# Altium footprint library AltiumLibraries.PcbLib: 84 footprints (part 4 of 6)
Each footprint in its own frame and in the unit in brackets; x right, y up, seen from the top. Pads: shape width x height; smd on the part's side, far side on the other; paste and mask are expansions set on the pad; w line width, h text height; cw(c..) or ccw(c..) is an arc to the next point about the centre after c.
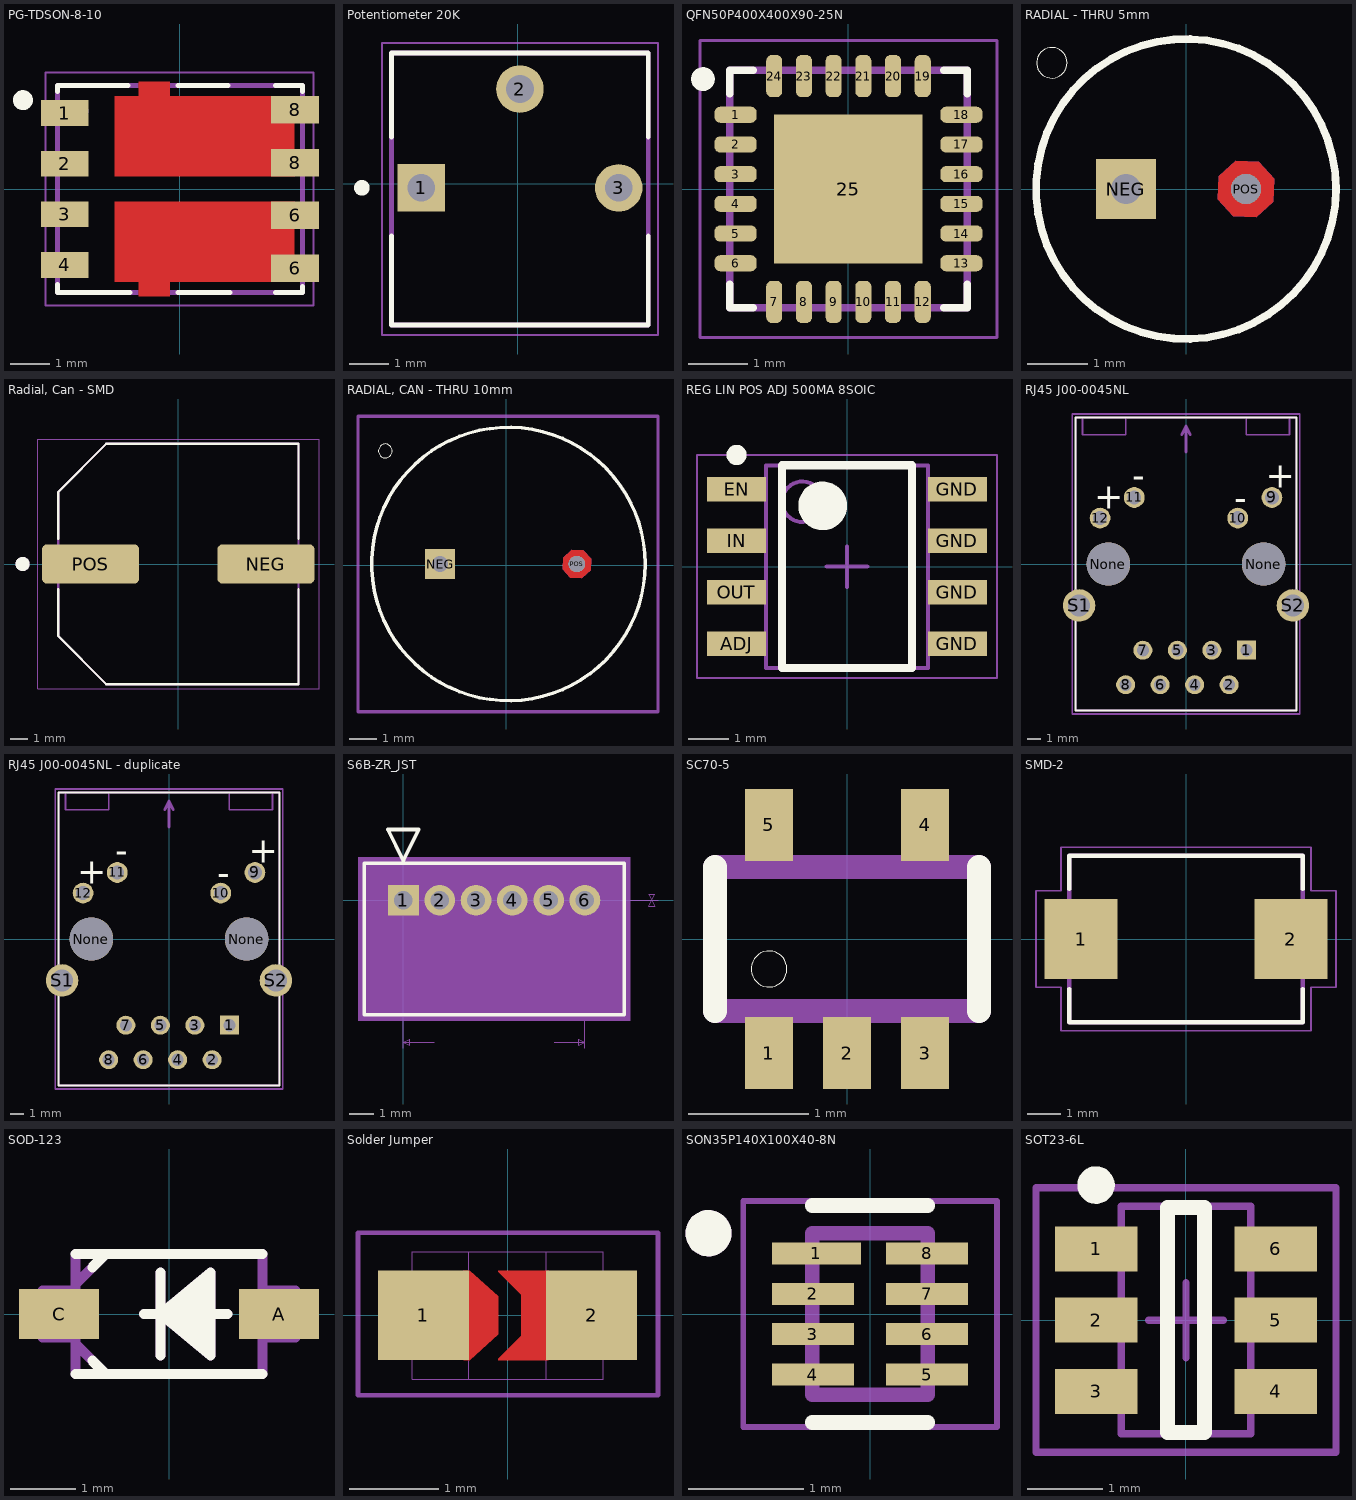
[diagram p3: the footprints below, top view; thin cyan lines are the x and y axes]

## PG-TDSON-8-10 [mm] "Infineon specific mosfet array footprint"
pads (8):
  rect 1.2x0.65 smd: 1(-2.89,1.905) 2(-2.89,0.635) 3(-2.89,-0.635) 4(-2.89,-1.905)
  rect 1.2x0.7 smd: 6(2.89,-1.99) 6(2.89,-0.66) 8(2.89,0.66) 8(2.89,1.99)
Top Layer:
  rectangle: -1.04,2.1 -0.25,2.7
  rectangle: -1.04,-2.7 -0.25,-2.1
  region: -1.64,-0.32 2.84,-0.32 2.87,-0.32 2.87,-2.33 -1.62,-2.33 -1.64,-2.33 -1.64,-2.31
  region: -1.64,2.33 2.84,2.33 2.87,2.33 2.87,0.32 -1.62,0.32 -1.64,0.32 -1.64,0.34
Top Overlay:
  circle w0.3: c-3.94,2.23 r0.1
  lines w0.127: -3.075,-2.4 -3.075,-2.6 -1.25,-2.6 ; -3.075,2.45 -3.075,2.6 -1.3,2.6 ; -0.05,-2.6 1.25,-2.6 ; -0.05,2.6 1.2,2.6 ; 2.4,-2.6 3.075,-2.6 3.075,-2.45 ; 2.4,2.6 3.075,2.6 3.075,2.45
Top Paste:
  rectangle: -1.12,0.97 -0.32,1.79
  rectangle: -1,0.91 -0.2,1.73
  rectangle: -1.06,-1.72 -0.26,-0.9
  rectangle: 0.59,0.87 1.39,1.69
  rectangle: 0.83,-1.73 1.63,-0.91
Top Solder:
  region: -1.101,-2.25 -0.2,-2.25 -0.2,-2.752 -1.101,-2.752
  region: -1.101,2.75 -0.2,2.75 -0.2,2.253 -1.101,2.253
Mechanical 4:
  circle w0.3: c-2.55,1.95 r0.1
  circle w0.3: c-2.55,1.95 r0.1
  lines w0.127: -3.075,-2.6 -3.075,2.6 ; -3.075,-2.6 3.075,-2.6 ; -3.075,-2.6 -3.075,2.6 ; -3.075,-2.6 3.075,-2.6 ; -3.075,2.6 3.075,2.6 ; -3.075,2.6 3.075,2.6 ; 3.075,-2.6 3.075,2.6 ; 3.075,-2.6 3.075,2.6
Mechanical 16:
  lines w0.05: -3.375,-2.925 -3.375,2.925 3.35,2.925 3.35,-2.925 -3.375,-2.925

## Potentiometer 20K [mm]
pads (3):
  rect 1.222x1.222 hole 0.714: 1(-2.48,-0.1)
  round 1.222 hole 0.714: 2(0.06,2.44) 3(2.6,-0.1)
Top Overlay:
  circle w0.2: c-4.004,-0.1 r0.1
  lines w0.127: -3.24,-3.63 3.36,-3.63 ; -3.24,-3.62 -3.24,-1.335 ; -3.24,1.205 -3.24,3.37 3.36,3.37 3.36,1.205 ; 3.36,-3.62 3.36,-1.335
Mechanical 4:
  lines w0.127: -3.24,-3.63 3.36,-3.63 ; -3.24,-3.63 -3.24,3.37 ; -3.24,-3.63 3.36,-3.63 ; -3.24,-3.63 -3.24,3.37 ; -3.24,3.37 3.36,3.37 ; -3.24,3.37 3.36,3.37 ; 3.36,-3.63 3.36,3.37 ; 3.36,-3.63 3.36,3.37
Mechanical 16:
  lines w0.05: -3.49,-3.88 3.61,-3.88 3.61,3.62 -3.49,3.62 -3.49,-3.88

## QFN50P400X400X90-25N [mm]
pads (25):
  rrect70% 0.71x0.27 smd: 1(-1.9,1.25) 2(-1.9,0.75) 3(-1.9,0.25) 4(-1.9,-0.25) 5(-1.9,-0.75) 6(-1.9,-1.25) 13(1.9,-1.25) 14(1.9,-0.75) 15(1.9,-0.25) 16(1.9,0.25) 17(1.9,0.75) 18(1.9,1.25)
  rrect70% 0.27x0.71 smd: 7(-1.25,-1.9) 8(-0.75,-1.9) 9(-0.25,-1.9) 10(0.25,-1.9) 11(0.75,-1.9) 12(1.25,-1.9) 19(1.25,1.9) 20(0.75,1.9) 21(0.25,1.9) 22(-0.25,1.9) 23(-0.75,1.9) 24(-1.25,1.9)
  rect 2.5x2.5 smd paste-2: 25(0,0)
Top Overlay:
  circle w0.2: c-2.45,1.85 r0.1
  lines w0.127: -2,-1.6 -2,-2 -1.6,-2 ; -2,1.6 -2,2 -1.6,2 ; 1.6,-2 2,-2 2,-1.6 ; 1.6,2 2,2 2,1.6
Top Paste:
  region: -0.1,0.1 -1.101,0.1 -1.101,1.1 -0.1,1.1
  region: 1.1,0.1 0.1,0.1 0.1,1.1 1.1,1.1
  region: 1.1,-1.101 0.1,-1.101 0.1,-0.1 1.1,-0.1
  region: -0.1,-1.101 -1.101,-1.101 -1.101,-0.1 -0.1,-0.1
Mechanical 13:
  lines w0.127: -2,-2 -2,2 2,2 2,-2 -2,-2
Mechanical 15:
  lines w0.05: -2.5,-2.5 -2.5,2.5 2.5,2.5 2.5,-2.5 -2.5,-2.5

## RADIAL - THRU 5mm [mm] "Through Hole"
pads (2):
  rect 1.008x1.008 hole 0.5: NEG(-1,0)
  round 0.5 hole 0.5: POS(1,0)
Top Layer:
  region: 1.474,0.172 1.213,0.457 0.828,0.474 0.543,0.213 0.526,-0.172 0.787,-0.457 1.172,-0.474 1.457,-0.213
Bottom Layer:
  region: 1.474,0.172 1.213,0.457 0.828,0.474 0.543,0.213 0.526,-0.172 0.787,-0.457 1.172,-0.474 1.457,-0.213
Top Overlay:
  circle w0.127: c0,0 r2.5
  circle w0: c-2.236,2.103 r0.254
Multi-Layer:
  region: 1.474,0.172 1.213,0.457 0.828,0.474 0.543,0.213 0.526,-0.172 0.787,-0.457 1.172,-0.474 1.457,-0.213

## Radial, Can - SMD [mm]
pads (2):
  rrect25% 5.46x2.21 smd: NEG(4.925,0) POS(-4.925,0)
Top Overlay:
  circle w0.4: c-8.75,0 r0.2
  lines w0.127: -6.75,-1.42 -6.75,-4.05 -4.05,-6.752 6.75,-6.752 6.75,-1.42 ; -6.75,1.42 -6.75,4.05 -4.05,6.752 6.75,6.752 6.75,1.42
Mechanical 13:
  circle w0.4: c-8.75,0 r0.2
  lines w0.127: -6.75,-4.05 -6.75,4.05 -4.05,6.75 6.75,6.75 6.75,-6.75 -4.05,-6.75 -6.75,-4.05
Mechanical 15:
  lines w0.05: -7.905,-7 7.905,-7 7.905,7 -7.905,7 -7.905,-7

## RADIAL, CAN - THRU 10mm [mm]
pads (2):
  rect 1.108x1.108 hole 0.6: NEG(-2.424,0.051)
  round 0.6 hole 0.6: POS(2.576,0.051)
Top Layer:
  region: 3.097,0.24 2.81,0.553 2.387,0.571 2.074,0.285 2.056,-0.139 2.342,-0.451 2.766,-0.47 3.078,-0.183
Bottom Layer:
  region: 3.097,0.24 2.81,0.553 2.387,0.571 2.074,0.285 2.056,-0.139 2.342,-0.451 2.766,-0.47 3.078,-0.183
Top Overlay:
  circle w0.127: c0.076,0.051 r5
  circle w0: c-4.424,4.186 r0.254
Mechanical 16:
  lines w0.127: -5.424,-5.349 5.546,-5.349 5.546,5.451 -5.424,5.451 -5.424,-5.349
Multi-Layer:
  region: 3.097,0.24 2.81,0.553 2.387,0.571 2.074,0.285 2.056,-0.139 2.342,-0.451 2.766,-0.47 3.078,-0.183

## REG LIN POS ADJ 500MA 8SOIC [mm] "Linear Voltage Regulator IC  1 Output  500mA 8-SOIC"
height 1.75
pads (8):
  rect 1.45x0.6 smd: ADJ(-2.725,-1.905) EN(-2.725,1.905) GND(2.725,-1.905) GND(2.725,-0.635) GND(2.725,0.635) GND(2.725,1.905) IN(-2.725,0.635) OUT(-2.725,-0.635)
Top Overlay:
  circle w0.6: c-0.6,1.5 r0.3
  circle w0.25: c-2.725,2.755 r0.125
  lines w0.2: -1.6,-2.5 1.6,-2.5 1.6,2.5 -1.6,2.5 -1.6,-2.5
Mechanical 13:
  circle w0.1: c-1.1,1.6 r0.5
  lines w0.1: -2,-2.5 2,-2.5 2,2.5 -2,2.5 -2,-2.5
Mechanical 15:
  lines w0.05: -3.7,-2.75 3.7,-2.75 3.7,2.75 -3.7,2.75 -3.7,-2.75
  lines w0.1: -0.5,0 0.5,0 ; 0,-0.5 0,0.5
3D body: height 1.75, standoff 0.1, extent -2,-2.5 2,2.5

## RJ45 J00-0045NL [mm]
pads (16):
  rect 1.398x1.398 hole 0.89: 1(4.445,-6.35)
  round 1.398 hole 0.89: 2(3.175,-8.89) 3(1.905,-6.35) 4(0.635,-8.89) 5(-0.635,-6.35) 6(-1.905,-8.89) 7(-3.175,-6.35) 8(-4.445,-8.89)
  round 1.53 hole 1.02: 9(6.325,4.9) 10(3.81,3.38) 11(-3.81,4.9) 12(-6.325,3.38)
  round 3.2 hole 3.2 unplated: None(-5.715,0) None(5.715,0)
  round 2.4 hole 1.6: S1(-7.875,-3.05) S2(7.875,-3.05)
Top Overlay:
  lines w0.127: -8.13,-10.795 -8.13,10.795 8.13,10.795 8.13,-10.795 -8.13,-10.795
  text "+" at -6.749,4.077 h1.88
  text "-" at -3.947,5.606 h1.88
  text "-" at 3.569,3.949 h1.88
  text "+" at 5.865,5.604 h1.88
Mechanical 4:
  lines w0.127: -8.128,-10.795 8.128,-10.795 ; -8.128,-10.795 -8.128,10.795 ; -8.128,-10.795 8.128,-10.795 ; -8.128,-10.795 -8.128,10.795 ; -8.128,10.795 8.128,10.795 ; -8.128,10.795 8.128,10.795 ; -7.62,9.525 -4.445,9.525 ; -7.62,9.525 -7.62,10.795 -7.62,9.525 ; -7.62,9.525 -4.445,9.525 ; -4.445,9.525 -4.445,10.795 -4.445,9.525 ; 4.445,9.525 7.62,9.525 ; 4.445,9.525 4.445,10.795 4.445,9.525 ; 4.445,9.525 7.62,9.525 ; 7.62,9.525 7.62,10.795 7.62,9.525 ; 8.128,-10.795 8.128,10.795 ; 8.128,-10.795 8.128,10.795
  lines w0.203: 0,10.16 0.318,9.525 0,10.16 ; 0,10.16 -0.318,9.525 0,10.16 ; 0,10.16 0,8.255 0,10.16
  text "12" at -7.753,1.402 h1.88
  text "11" at -4.327,2.805 h1.88
  text "10" at 2.804,1.152 h1.88
  text "9" at 6.235,2.804 h1.88
  text "FRONT" at -1.592,6.436 h1.88
  text "RIGHT" at -7.327,9.625 h1.88
  text "LEFT" at 5.102,9.636 h1.88
  text "2" at 3.823,-8.534 h1.88
  text "4" at 1.273,-8.524 h1.88
  text "6" at -1.277,-8.553 h1.88
  text "8" at -3.827,-8.542 h1.88
  text "7" at -2.549,-5.984 h1.88
  text "5" at 0,-5.995 h1.88
  text "3" at 2.547,-5.981 h1.88
  text "1" at 5.105,-5.993 h1.88
  text "12" at -7.753,1.402 h1.88
  text "11" at -4.327,2.805 h1.88
  text "10" at 2.804,1.152 h1.88
  text "9" at 6.235,2.804 h1.88
  text "FRONT" at -1.592,6.436 h1.88
  text "RIGHT" at -7.327,9.625 h1.88
  text "LEFT" at 5.102,9.636 h1.88
  text "2" at 3.823,-8.534 h1.88
  text "4" at 1.273,-8.524 h1.88
  text "6" at -1.277,-8.553 h1.88
  text "8" at -3.827,-8.542 h1.88
  text "7" at -2.549,-5.984 h1.88
  text "5" at 0,-5.995 h1.88
  text "3" at 2.547,-5.981 h1.88
  text "1" at 5.105,-5.993 h1.88
Mechanical 15:
  lines w0.127: -8.378,-11.045 -8.378,11.045 8.378,11.045 8.378,-11.045 -8.378,-11.045

## RJ45 J00-0045NL - duplicate [mm]
pads (16):
  rect 1.398x1.398 hole 0.89: 1(4.445,-6.35)
  round 1.398 hole 0.89: 2(3.175,-8.89) 3(1.905,-6.35) 4(0.635,-8.89) 5(-0.635,-6.35) 6(-1.905,-8.89) 7(-3.175,-6.35) 8(-4.445,-8.89)
  round 1.53 hole 1.02: 9(6.325,4.9) 10(3.81,3.38) 11(-3.81,4.9) 12(-6.325,3.38)
  round 3.2 hole 3.2 unplated: None(-5.715,0) None(5.715,0)
  round 2.4 hole 1.6: S1(-7.875,-3.05) S2(7.875,-3.05)
Top Overlay:
  lines w0.127: -8.13,-10.795 -8.13,10.795 8.13,10.795 8.13,-10.795 -8.13,-10.795
  text "+" at -6.749,4.077 h1.88
  text "-" at -3.947,5.606 h1.88
  text "-" at 3.569,3.949 h1.88
  text "+" at 5.865,5.604 h1.88
Mechanical 4:
  lines w0.127: -8.128,-10.795 8.128,-10.795 ; -8.128,-10.795 -8.128,10.795 ; -8.128,-10.795 8.128,-10.795 ; -8.128,-10.795 -8.128,10.795 ; -8.128,10.795 8.128,10.795 ; -8.128,10.795 8.128,10.795 ; -7.62,9.525 -4.445,9.525 ; -7.62,9.525 -7.62,10.795 -7.62,9.525 ; -7.62,9.525 -4.445,9.525 ; -4.445,9.525 -4.445,10.795 -4.445,9.525 ; 4.445,9.525 7.62,9.525 ; 4.445,9.525 4.445,10.795 4.445,9.525 ; 4.445,9.525 7.62,9.525 ; 7.62,9.525 7.62,10.795 7.62,9.525 ; 8.128,-10.795 8.128,10.795 ; 8.128,-10.795 8.128,10.795
  lines w0.203: 0,10.16 0.318,9.525 0,10.16 ; 0,10.16 -0.318,9.525 0,10.16 ; 0,10.16 0,8.255 0,10.16
  text "12" at -7.753,1.402 h1.88
  text "11" at -4.327,2.805 h1.88
  text "10" at 2.804,1.152 h1.88
  text "9" at 6.235,2.804 h1.88
  text "FRONT" at -1.592,6.436 h1.88
  text "RIGHT" at -7.327,9.625 h1.88
  text "LEFT" at 5.102,9.636 h1.88
  text "2" at 3.823,-8.534 h1.88
  text "4" at 1.273,-8.524 h1.88
  text "6" at -1.277,-8.553 h1.88
  text "8" at -3.827,-8.542 h1.88
  text "7" at -2.549,-5.984 h1.88
  text "5" at 0,-5.995 h1.88
  text "3" at 2.547,-5.981 h1.88
  text "1" at 5.105,-5.993 h1.88
  text "12" at -7.753,1.402 h1.88
  text "11" at -4.327,2.805 h1.88
  text "10" at 2.804,1.152 h1.88
  text "9" at 6.235,2.804 h1.88
  text "FRONT" at -1.592,6.436 h1.88
  text "RIGHT" at -7.327,9.625 h1.88
  text "LEFT" at 5.102,9.636 h1.88
  text "2" at 3.823,-8.534 h1.88
  text "4" at 1.273,-8.524 h1.88
  text "6" at -1.277,-8.553 h1.88
  text "8" at -3.827,-8.542 h1.88
  text "7" at -2.549,-5.984 h1.88
  text "5" at 0,-5.995 h1.88
  text "3" at 2.547,-5.981 h1.88
  text "1" at 5.105,-5.993 h1.88
Mechanical 15:
  lines w0.127: -8.378,-11.045 -8.378,11.045 8.378,11.045 8.378,-11.045 -8.378,-11.045
3D body "J00-0045NL--3DModel-STEP-56544.STEP": height 13.68, standoff -3.67, extent -8.201,-10.82 8.255,10.77

## S6B-ZR_JST [mil]
pads (6):
  rect 50x50 hole 30 mask+0: 1(0,0)
  round 50 hole 30 mask+0: 2(59.06,0) 3(118.11,0) 4(177.17,0) 5(236.22,0) 6(295.28,0)
Top Overlay:
  lines w6: -63.86,-186.1 359.14,-186.1 359.14,59.9 -63.86,59.9 -63.86,-186.1 ; -25,114.9 0,64.9 25,114.9 -25,114.9
Mechanical 5:
  region: -73.86,69.9 369.14,69.9 369.14,-196.1 -73.86,-196.1
Mechanical 7:
  lines w1: 0,-241.1 0,-35 ; 50,-231.1 0,-231.1 ; 245.28,-231.1 295.28,-231.1 ; 295.28,-241.1 295.28,-35 ; 0,-231.1 10,-236.1 10,-226.1 0,-231.1 ; 295.28,-231.1 285.28,-236.1 285.28,-226.1 295.28,-231.1 ; 404.14,0 399.14,-10 409.14,-10 404.14,0 ; 404.14,0 399.14,10 409.14,10 404.14,0 ; 330.28,0 414.14,0 330.28,0
  text "Default Padstyle: OX50Y50D30P" at -214.86,-381.1 h50
  text "Pin 1 Padstyle: SX50Y50D30P" at -189.86,-481.1 h50
  text "Alt 1 Padstyle: OX60Y90D30P" at -189.86,-581.1 h50
  text "Alt 2 Padstyle: OX90Y60D30P" at -189.86,-681.1 h50
Mechanical 13:
  lines w1: -58.86,-181.1 354.14,-181.1 354.14,54.9 -58.86,54.9 -58.86,-181.1 ; -25,114.9 0,64.9 25,114.9 -25,114.9
Mechanical 15:
  region: 364.14,64.9 -68.86,64.9 -68.86,-191.1 364.14,-191.1
  lines w6: -68.86,-191.1 -68.86,64.9 364.14,64.9 364.14,-191.1 -68.86,-191.1
3D body: height 10, standoff 0, extent 0,0 10,10

## SC70-5 [mm]
pads (5):
  rect 0.4x0.6 smd: 1(-0.65,-0.95) 2(0,-0.95) 3(0.65,-0.95) 4(0.65,0.95) 5(-0.65,0.95)
Top Overlay:
  circle w0: c-0.65,-0.25 r0.15
  lines w0.203: -1.1,-0.6 -1.1,0.6 ; 1.1,-0.6 1.1,0.6
Mechanical 13:
  region: -0.5,-1.102 -0.801,-1.102 -0.801,-0.6 -0.5,-0.6
  region: 0.15,-1.101 -0.15,-1.101 -0.15,-0.6 0.15,-0.6
  region: 0.8,-1.101 0.501,-1.101 0.501,-0.6 0.8,-0.6
  region: 0.8,0.601 0.501,0.601 0.501,1.1 0.8,1.1
  region: -0.5,0.601 -0.801,0.601 -0.801,1.1 -0.5,1.1
  lines w0.203: -1.1,-0.6 1.1,-0.6 ; -1.1,0.6 1.1,0.6

## SMD-2 [mm]
pads (2):
  rect 2.2x2.4 smd: 1(-3.15,0) 2(3.15,0)
Top Overlay:
  lines w0.127: -3.5,-1.5 -3.5,-2.5 3.5,-2.5 3.5,-1.5 ; -3.5,1.5 -3.5,2.5 3.5,2.5 3.5,1.5
Mechanical 4:
  lines w0.127: -3.5,-2.5 -3.5,2.5 ; -3.5,-2.5 3.5,-2.5 ; -3.5,-2.5 -3.5,2.5 ; -3.5,-2.5 3.5,-2.5 ; -3.5,2.5 3.5,2.5 ; -3.5,2.5 3.5,2.5 ; 3.5,-2.5 3.5,2.5 ; 3.5,-2.5 3.5,2.5
Mechanical 15:
  lines w0.05: -4.5,-1.45 -4.5,1.45 -3.75,1.45 -3.75,2.75 3.75,2.75 3.75,1.45 4.5,1.45 4.5,-1.45 3.75,-1.45 3.75,-2.75 -3.75,-2.75 -3.75,-1.45 -4.5,-1.45

## SOD-123 [mil]
pads (2):
  rect 48x30 smd: A(66,0) C(-66,0)
Top Overlay:
  lines w6: -56,-36 -38,-36 ; -56,36 -38,36 ; -46,-28 -38,-36 ; -46,28 -38,36 ; -15,0 -5,0 ; -5,-25 -5,0 ; -5,25 -5,0 ; 35,0 -5,0 ; 56,-36 -38,-36 ; 56,36 -38,36 ; -5,0 25,-5 ; -5,0 25,-10 ; -5,0 25,-15 ; -5,0 25,-20 ; -5,0 25,-25 25,-20 ; -5,0 25,5 ; -5,0 25,10 ; -5,0 25,15 ; -5,0 25,20 ; -5,0 25,25 25,20 ; 25,-20 25,-15 ; 25,-15 25,-10 ; 25,-10 25,-5 ; 25,-5 25,5 ; 25,5 25,10 ; 25,10 25,15 ; 25,15 25,20
Mechanical 4:
  lines w6: -76,-14 -56,-14 ; -76,-14 -76,14 ; -76,-14 -56,-14 ; -76,-14 -76,14 ; -76,14 -56,14 ; -76,14 -56,14 ; -56,-36 -38,-36 ; -56,-36 -56,-18 ; -56,-36 -38,-36 ; -56,-36 -56,-18 ; -56,-18 -38,-36 ; -56,-18 -56,-14 ; -56,-18 -38,-36 ; -56,-18 -56,-14 ; -56,-14 -56,14 ; -56,-14 -56,14 ; -56,14 -56,18 ; -56,14 -56,18 ; -56,18 -38,36 ; -56,18 -56,36 ; -56,18 -38,36 ; -56,18 -56,36 ; -56,36 -38,36 ; -56,36 -38,36 ; -38,-36 56,-36 ; -38,-36 56,-36 ; -38,36 56,36 ; -38,36 56,36 ; -5,0 25,-5 ; -5,0 25,-10 ; -5,0 25,-15 ; -5,0 25,-20 ; -5,0 25,-25 ; -5,0 25,5 ; -5,0 25,10 ; -5,0 25,15 ; -5,0 25,20 ; -5,0 25,25 ; -5,0 -5,25 -5,0 ; -5,0 35,0 -5,0 ; -5,0 -5,-25 -5,0 ; -5,0 -15,0 -5,0 ; -5,0 25,-5 ; -5,0 25,-10 ; -5,0 25,-15 ; -5,0 25,-20 ; -5,0 25,-25 ; -5,0 25,5 ; -5,0 25,10 ; -5,0 25,15 ; -5,0 25,20 ; -5,0 25,25 ; 25,-25 25,-20 ; 25,-25 25,-20 ; 25,-20 25,-15 ; 25,-20 25,-15 ; 25,-15 25,-10 ; 25,-15 25,-10 ; 25,-10 25,-5 ; 25,-10 25,-5 ; 25,-5 25,5 ; 25,-5 25,5 ; 25,5 25,10 ; 25,5 25,10 ; 25,10 25,15 ; 25,10 25,15 ; 25,15 25,20 ; 25,15 25,20 ; 25,20 25,25 ; 25,20 25,25 ; 56,-36 56,-14 ; 56,-36 56,-14 ; 56,-14 56,14 ; 56,-14 76,-14 ; 56,-14 56,14 ; 56,-14 76,-14 ; 56,14 76,14 ; 56,14 56,36 ; 56,14 76,14 ; 56,14 56,36 ; 76,-14 76,14 ; 76,-14 76,14

## Solder Jumper [mil] "Solder jumper compatible with 0805 passives"
pads (2):
  rect 40x39.37 smd: 1(-37,0) 2(37,0)
Top Layer:
  region: -16.54,19.68 -4.01,8.37 -3.99,-8.37 -16.54,-19.68 -19.29,-19.68 -19.29,19.68
  region: 18,-19.68 -4.06,-19.68 -4.06,-19.06 6,-9 6,15.35 18,15.35
  region: 18,19.68 -4.06,19.68 -4.06,19.06 6,9 6,-15.35 18,-15.35
Mechanical 1:
  lines w0: -17,-28 17,-28 ; -17,-28 -42,-28 -42,28 -17,28 ; -17,-28 -17,28 ; -17,28 17,28 ; 17,-28 42,-28 42,28 17,28 ; 17,-28 17,28
Mechanical 15:
  lines w2.01: -65.75,-35.04 66.14,-35.04 66.14,36.22 -65.75,36.22 -65.75,-35.04

## SON35P140X100X40-8N [mm]
pads (8):
  rect 0.77x0.19 smd: 1(-0.465,0.525)
  rect 0.71x0.19 smd: 2(-0.495,0.175) 3(-0.495,-0.175) 4(-0.495,-0.525) 5(0.495,-0.525) 6(0.495,-0.175) 7(0.495,0.175) 8(0.495,0.525)
Top Overlay:
  circle w0.2: c-1.4,0.7 r0.1
  lines w0.127: -0.5,-0.94 0.5,-0.94 ; -0.5,0.94 0.5,0.94
Mechanical 13:
  circle w0.2: c-1.4,0.7 r0.1
  lines w0.127: -0.5,-0.7 -0.5,0.7 0.5,0.7 0.5,-0.7 -0.5,-0.7
Mechanical 15:
  lines w0.05: -1.1,-0.98 -1.1,0.98 1.1,0.98 1.1,-0.98 -1.1,-0.98

## SOT23-6L [mm]
height 1.25
pads (6):
  rect 1.1x0.6 smd: 1(-1.2,0.95) 2(-1.2,0) 3(-1.2,-0.95) 4(1.2,-0.95) 5(1.2,0) 6(1.2,0.95)
Top Overlay:
  circle w0.25: c-1.2,1.8 r0.125
  lines w0.2: -0.25,-1.5 0.25,-1.5 0.25,1.5 -0.25,1.5 -0.25,-1.5
Mechanical 13:
  lines w0.1: -0.865,-1.515 -0.865,1.515 0.865,1.515 0.865,-1.515 -0.865,-1.515
Mechanical 15:
  lines w0.1: -0.5,0 0.5,0 ; 0,-0.5 0,0.5 ; -2,-1.763 -2,1.763 2,1.763 2,-1.763 -2,-1.763
3D body: height 1.25, standoff 0.05, extent -0.865,-1.515 0.865,1.515